# Altium schematic symbol library SPPH410100.SchLib: 1 symbol
Pins are listed as number, name and electrical type; pins without a type are passive.

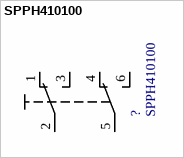
[diagram p0: symbol SPPH410100]

## SPPH410100
designator ?
Ring Type Encoder _ABC - three phase_ â€¢ Number of Detent: 30 â€¢ Number of Pulse: 10 â€¢ Actuator Length: 15mm; MF: ALPS; MP: SPPH410100; SnapEDA_Link: https://www.snapeda.com/parts/SPPH410100/ALPS/view-part/?ref=snap; Availability: Unavailable; Package: None; Price: None; Value: *
footprint SPPH410100
pins: 1 O, 2 P, 3 S, 4 O1, 5 P1, 6 S1